# Altium integrated library CRG1206F2K2_10.IntLib: 1 symbol
Pins are listed as number, name and electrical type; pins without a type are passive.

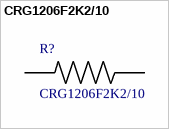
[diagram p0: symbol CRG1206F2K2/10]

## CRG1206F2K2/10
designator R?
/ Res Thick Film 1206 2.2K Ohm 1% 0.25W_1/4W_ Â±100ppm/C Pad SMD T/R /; MF: TE Connectivity; TE_purchase_URL: https://www.te.com/usa-en/product-CRG1206F2K2/10.html?te_bu=Cor&te_type=disp&te_campaign=seda_glo_cor-seda-global-disp-prtnr-fy19-seda-model-bom-cta_sma-317_1&elqCampaignId=32493; SnapEDA_Link: https://www.snapeda.com/parts/CRG1206F2K2/10/TE%20Connectivity%20Passive%20Product/view-part/?ref=snap; Availability: Unavailable; Package: 3115 TE Connectivity; Price: None; MP: CRG1206F2K2/10; Value: *
footprint *RESC3115X65N
pins: 1, 2